# Altium integrated library OPL_Resistor.IntLib: 301 symbols
Pins are listed as number, name and electrical type; pins without a type are passive.

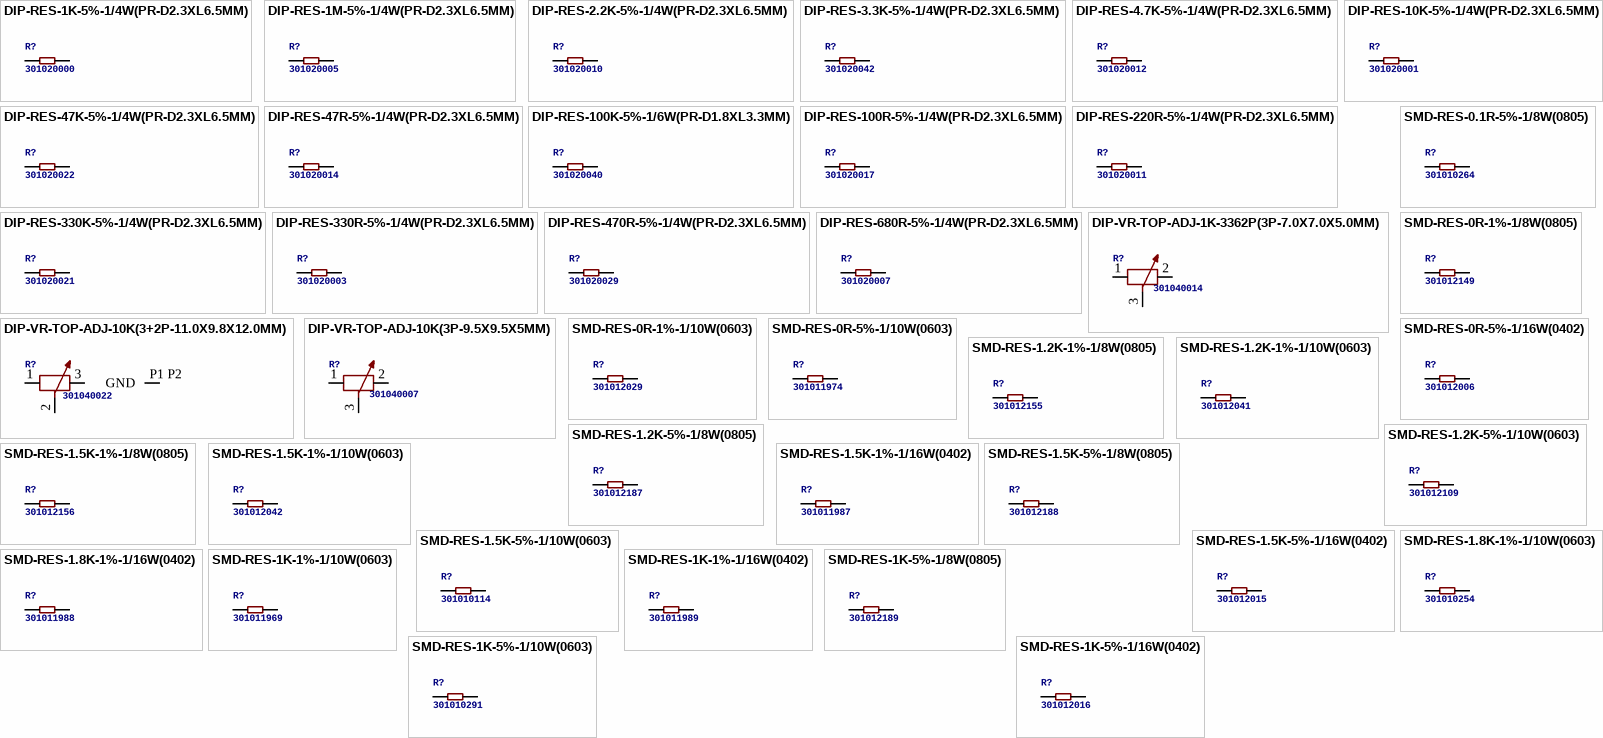
[diagram p0: symbols DIP-RES-1K-5%-1/4W(PR-D2.3XL6.5MM) to SMD-RES-1K-5%-1/16W(0402)]

## DIP-RES-1K-5%-1/4W(PR-D2.3XL6.5MM)
designator R?, comment 301020000
MPN: FHCFR-1/4W-102J
footprint PR-D2.3XL6.5MM
pins: 1, 2

## DIP-RES-1M-5%-1/4W(PR-D2.3XL6.5MM)
designator R?, comment 301020005
MPN: FHCFR-1/4W-105J
footprint PR-D2.3XL6.5MM
pins: 1, 2

## DIP-RES-2.2K-5%-1/4W(PR-D2.3XL6.5MM)
designator R?, comment 301020010
MPN: FHCFR-1/4W-222J
footprint PR-D2.3XL6.5MM
pins: 1, 2

## DIP-RES-3.3K-5%-1/4W(PR-D2.3XL6.5MM)
designator R?, comment 301020042
MPN: FHCFR-1/4W-332J
footprint PR-D2.3XL6.5MM
pins: 1, 2

## DIP-RES-4.7K-5%-1/4W(PR-D2.3XL6.5MM)
designator R?, comment 301020012
MPN: FHCFR-1/4W-472J
footprint PR-D2.3XL6.5MM
pins: 1, 2

## DIP-RES-10K-5%-1/4W(PR-D2.3XL6.5MM)
designator R?, comment 301020001
MPN: FHCFR-1/4W-103J
footprint PR-D2.3XL6.5MM
pins: 1, 2

## DIP-RES-47K-5%-1/4W(PR-D2.3XL6.5MM)
designator R?, comment 301020022
MPN: FHCFR-1/4W-473J
footprint PR-D2.3XL6.5MM
pins: 1, 2

## DIP-RES-47R-5%-1/4W(PR-D2.3XL6.5MM)
designator R?, comment 301020014
MPN: FHCFR-1/4W-470J
footprint PR-D2.3XL6.5MM
pins: 1, 2

## DIP-RES-100K-5%-1/6W(PR-D1.8XL3.3MM)
designator R?, comment 301020040
MPN: FHCFR-1/6W-104J--
footprint PR-D1.8*L3.3MM
pins: 5 2, 6 1

## DIP-RES-100R-5%-1/4W(PR-D2.3XL6.5MM)
designator R?, comment 301020017
MPN: FHCFR-1/4W-101J
footprint PR-D2.3XL6.5MM
pins: 1, 2

## DIP-RES-220R-5%-1/4W(PR-D2.3XL6.5MM)
designator R?, comment 301020011
MPN: FHCFR-1/4W-221J
footprint PR-D2.3XL6.5MM
pins: 1, 2

## DIP-RES-330K-5%-1/4W(PR-D2.3XL6.5MM)
designator R?, comment 301020021
MPN: FHCFR-1/4W-334J
footprint PR-D2.3XL6.5MM
pins: 1, 2

## DIP-RES-330R-5%-1/4W(PR-D2.3XL6.5MM)
designator R?, comment 301020003
MPN: FHCFR-1/4W-331J
footprint PR-D2.3XL6.5MM
pins: 1, 2

## DIP-RES-470R-5%-1/4W(PR-D2.3XL6.5MM)
designator R?, comment 301020029
MPN: FHCFR-1/4W-471J
footprint PR-D2.3XL6.5MM
pins: 1, 2

## DIP-RES-680R-5%-1/4W(PR-D2.3XL6.5MM)
designator R?, comment 301020007
MPN: FHCFR-1/4W-681J
footprint PR-D2.3XL6.5MM
pins: 1, 2

## DIP-VR-TOP-ADJ-1K-3362P(3P-7.0X7.0X5.0MM)
designator R?, comment 301040014
MPN: SX3362P
footprint ADJR3-7.0X7.0X5.0MM
pins: 1, 2, 3

## DIP-VR-TOP-ADJ-10K(3+2P-11.0X9.8X12.0MM)
designator R?, comment 301040022
MPN: WH09-2-103
footprint ADJR2+3P-11.0X9.8X12.0MM
pins: 1, 2, 3, P1 P2 GND (power)

## DIP-VR-TOP-ADJ-10K(3P-9.5X9.5X5MM)
designator R?, comment 301040007
MPN: 3386U-103
footprint ADJR3-9.5X9.5X10.5MM
pins: 1, 2, 3

## SMD-RES-0.1R-5%-1/8W(0805)
designator R?, comment 301010264
MPN: RL0805JR-070R1L
footprint R0805
pins: 1, 2

## SMD-RES-0R-1%-1/8W(0805)
designator R?, comment 301012149
MPN: RC0805JR-071KL
footprint R0805
pins: 1, 2

## SMD-RES-0R-1%-1/10W(0603)
designator R?, comment 301012029
MPN: RC0603FR-071K5L
footprint R0603
pins: 1, 2

## SMD-RES-0R-5%-1/10W(0603)
designator R?, comment 301011974
MPN: RC0603JR-070RL
footprint R0603
pins: 1, 2

## SMD-RES-0R-5%-1/16W(0402)
designator R?, comment 301012006
MPN: RC0402JR-070RL
footprint R0402
pins: 1, 2

## SMD-RES-1.2K-1%-1/8W(0805)
designator R?, comment 301012155
MPN: RC0805JR-071KL
footprint R0805
pins: 1, 2

## SMD-RES-1.2K-1%-1/10W(0603)
designator R?, comment 301012041
MPN: RC0603FR-071K5L
footprint R0603
pins: 1, 2

## SMD-RES-1.2K-5%-1/8W(0805)
designator R?, comment 301012187
MPN: RC0805JR-071KL
footprint R0805
pins: 1, 2

## SMD-RES-1.2K-5%-1/10W(0603)
designator R?, comment 301012109
MPN: RC0603FR-071K5L
footprint R0603
pins: 1, 2

## SMD-RES-1.5K-1%-1/8W(0805)
designator R?, comment 301012156
MPN: RC0805JR-071KL
footprint R0805
pins: 1, 2

## SMD-RES-1.5K-1%-1/10W(0603)
designator R?, comment 301012042
MPN: RC0603FR-071K5L
footprint R0603
pins: 1, 2

## SMD-RES-1.5K-1%-1/16W(0402)
designator R?, comment 301011987
MPN: RC0402JR-070RL
footprint R0402
pins: 1, 2

## SMD-RES-1.5K-5%-1/8W(0805)
designator R?, comment 301012188
MPN: RC0805JR-071KL
footprint R0805
pins: 1, 2

## SMD-RES-1.5K-5%-1/10W(0603)
designator R?, comment 301010114
MPN: RC0603JR-071K5L
footprint R0603
pins: 1, 2

## SMD-RES-1.5K-5%-1/16W(0402)
designator R?, comment 301012015
MPN: RC0402JR-071K5L
footprint R0402
pins: 1, 2

## SMD-RES-1.8K-1%-1/10W(0603)
designator R?, comment 301010254
MPN: RC0603FR-071K8L
footprint R0603
pins: 1, 2

## SMD-RES-1.8K-1%-1/16W(0402)
designator R?, comment 301011988
MPN: RC0402JR-070RL
footprint R0402
pins: 1, 2

## SMD-RES-1K-1%-1/10W(0603)
designator R?, comment 301011969
MPN: RC0603FR-071KL
footprint R0603
pins: 1, 2

## SMD-RES-1K-1%-1/16W(0402)
designator R?, comment 301011989
MPN: RC0402JR-070RL
footprint R0402
pins: 1, 2

## SMD-RES-1K-5%-1/8W(0805)
designator R?, comment 301012189
MPN: RC0805JR-071KL
footprint R0805
pins: 1, 2

## SMD-RES-1K-5%-1/10W(0603)
designator R?, comment 301010291
MPN: RC0603JR-071KL
footprint R0603
pins: 1, 2

## SMD-RES-1K-5%-1/16W(0402)
designator R?, comment 301012016
MPN: RC0402JR-071KL
footprint R0402
pins: 1, 2

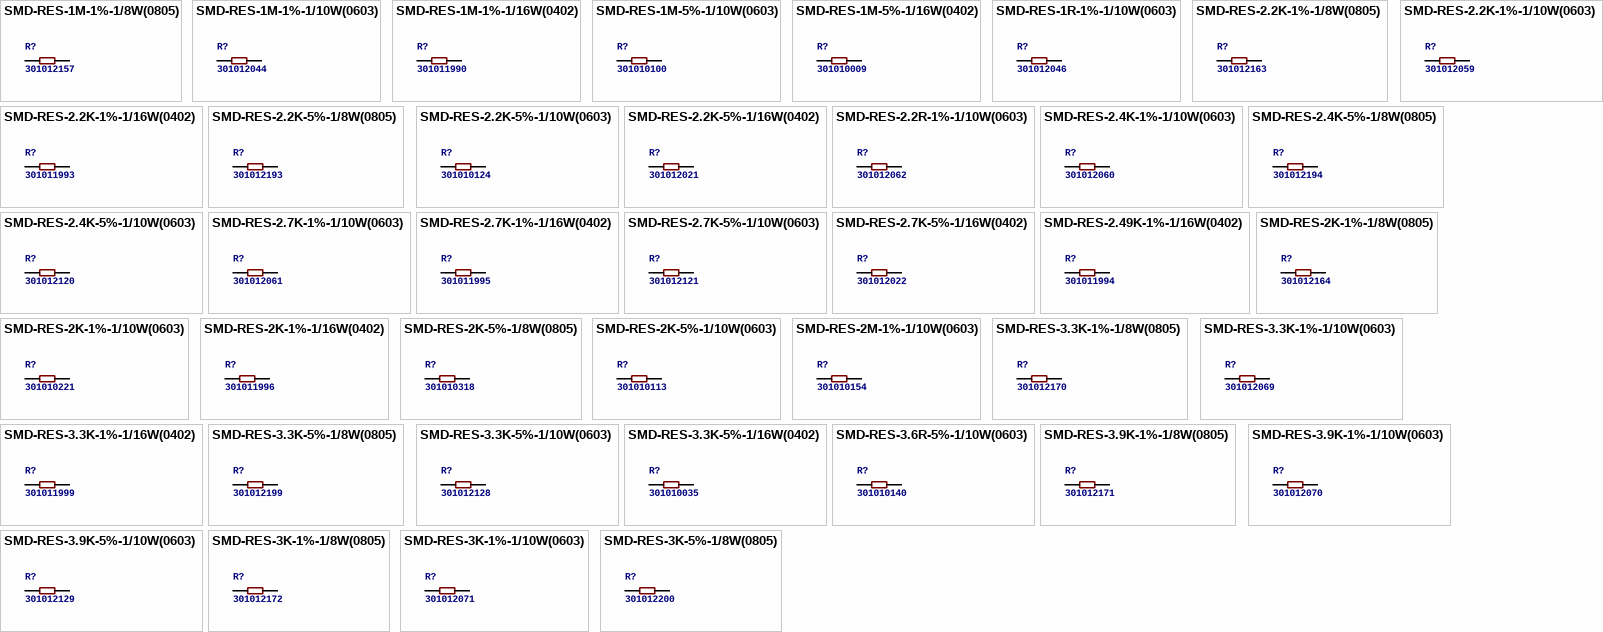
[diagram p1: symbols SMD-RES-1M-1%-1/8W(0805) to SMD-RES-3K-5%-1/8W(0805)]

## SMD-RES-1M-1%-1/8W(0805)
designator R?, comment 301012157
MPN: RC0805JR-071KL
footprint R0805
pins: 1, 2

## SMD-RES-1M-1%-1/10W(0603)
designator R?, comment 301012044
MPN: RC0603FR-071ML
footprint R0603
pins: 1, 2

## SMD-RES-1M-1%-1/16W(0402)
designator R?, comment 301011990
MPN: RC0402FR-071ML
footprint R0402
pins: 1, 2

## SMD-RES-1M-5%-1/10W(0603)
designator R?, comment 301010100
MPN: RC0603JR-071ML
footprint R0603
pins: 1, 2

## SMD-RES-1M-5%-1/16W(0402)
designator R?, comment 301010009
MPN: RC0402JR-071ML
footprint R0402
pins: 1, 2

## SMD-RES-1R-1%-1/10W(0603)
designator R?, comment 301012046
MPN: RC0603FR-071K5L
footprint R0603
pins: 1, 2

## SMD-RES-2.2K-1%-1/8W(0805)
designator R?, comment 301012163
MPN: RC0805JR-071KL
footprint R0805
pins: 1, 2

## SMD-RES-2.2K-1%-1/10W(0603)
designator R?, comment 301012059
MPN: RC0603FR-071K5L
footprint R0603
pins: 1, 2

## SMD-RES-2.2K-1%-1/16W(0402)
designator R?, comment 301011993
MPN: RC0402JR-070RL
footprint R0402
pins: 1, 2

## SMD-RES-2.2K-5%-1/8W(0805)
designator R?, comment 301012193
MPN: RC0805JR-072K2L
footprint R0805
pins: 1, 2

## SMD-RES-2.2K-5%-1/10W(0603)
designator R?, comment 301010124
MPN: RC0603JR-072K2L
footprint R0603
pins: 1, 2

## SMD-RES-2.2K-5%-1/16W(0402)
designator R?, comment 301012021
MPN: RC0402JR-070RL
footprint R0402
pins: 1, 2

## SMD-RES-2.2R-1%-1/10W(0603)
designator R?, comment 301012062
MPN: RC0603FR-071K5L
footprint R0603
pins: 1, 2

## SMD-RES-2.4K-1%-1/10W(0603)
designator R?, comment 301012060
MPN: RC0603FR-071K5L
footprint R0603
pins: 1, 2

## SMD-RES-2.4K-5%-1/8W(0805)
designator R?, comment 301012194
MPN: RC0805JR-071KL
footprint R0805
pins: 1, 2

## SMD-RES-2.4K-5%-1/10W(0603)
designator R?, comment 301012120
MPN: RC0603FR-071K5L
footprint R0603
pins: 1, 2

## SMD-RES-2.7K-1%-1/10W(0603)
designator R?, comment 301012061
footprint R0603
pins: 1, 2

## SMD-RES-2.7K-1%-1/16W(0402)
designator R?, comment 301011995
MPN: RC0402FR-072K7L
footprint R0402
pins: 1, 2

## SMD-RES-2.7K-5%-1/10W(0603)
designator R?, comment 301012121
MPN: RC0603FR-071K5L
footprint R0603
pins: 1, 2

## SMD-RES-2.7K-5%-1/16W(0402)
designator R?, comment 301012022
MPN: RC0402JR-070RL
footprint R0402
pins: 1, 2

## SMD-RES-2.49K-1%-1/16W(0402)
designator R?, comment 301011994
MPN: RC0402JR-070RL
footprint R0402
pins: 1, 2

## SMD-RES-2K-1%-1/8W(0805)
designator R?, comment 301012164
MPN: RC0805JR-071KL
footprint R0805
pins: 1, 2

## SMD-RES-2K-1%-1/10W(0603)
designator R?, comment 301010221
MPN: RC0603FR-072KL
footprint R0603
pins: 1, 2

## SMD-RES-2K-1%-1/16W(0402)
designator R?, comment 301011996
MPN: RC0402JR-070RL
footprint R0402
pins: 1, 2

## SMD-RES-2K-5%-1/8W(0805)
designator R?, comment 301010318
MPN: RC0805JR-072KL
footprint R0805
pins: 1, 2

## SMD-RES-2K-5%-1/10W(0603)
designator R?, comment 301010113
MPN: RC0603JR-072KL
footprint R0603
pins: 1, 2

## SMD-RES-2M-1%-1/10W(0603)
designator R?, comment 301010154
MPN: RC0603FR-072ML
footprint R0603
pins: 1, 2

## SMD-RES-3.3K-1%-1/8W(0805)
designator R?, comment 301012170
MPN: RC0805JR-071KL
footprint R0805
pins: 1, 2

## SMD-RES-3.3K-1%-1/10W(0603)
designator R?, comment 301012069
MPN: RC0603FR-073K3L
footprint R0603
pins: 1, 2

## SMD-RES-3.3K-1%-1/16W(0402)
designator R?, comment 301011999
MPN: RC0402JR-070RL
footprint R0402
pins: 1, 2

## SMD-RES-3.3K-5%-1/8W(0805)
designator R?, comment 301012199
MPN: RC0805JR-071KL
footprint R0805
pins: 1, 2

## SMD-RES-3.3K-5%-1/10W(0603)
designator R?, comment 301012128
footprint R0603
pins: 1, 2

## SMD-RES-3.3K-5%-1/16W(0402)
designator R?, comment 301010035
MPN: RC0402JR-073K3L
footprint R0402
pins: 1, 2

## SMD-RES-3.6R-5%-1/10W(0603)
designator R?, comment 301010140
MPN: RC0603JR-073R6L
footprint R0603
pins: 1, 2

## SMD-RES-3.9K-1%-1/8W(0805)
designator R?, comment 301012171
MPN: RC0805JR-071KL
footprint R0805
pins: 1, 2

## SMD-RES-3.9K-1%-1/10W(0603)
designator R?, comment 301012070
MPN: RC0603FR-071K5L
footprint R0603
pins: 1, 2

## SMD-RES-3.9K-5%-1/10W(0603)
designator R?, comment 301012129
MPN: RC0603JR-073K9L
footprint R0603
pins: 1, 2

## SMD-RES-3K-1%-1/8W(0805)
designator R?, comment 301012172
MPN: RC0805JR-071KL
footprint R0805
pins: 1, 2

## SMD-RES-3K-1%-1/10W(0603)
designator R?, comment 301012071
MPN: RC0603FR-073KL
footprint R0603
pins: 1, 2

## SMD-RES-3K-5%-1/8W(0805)
designator R?, comment 301012200
MPN: RC0805JR-071KL
footprint R0805
pins: 1, 2

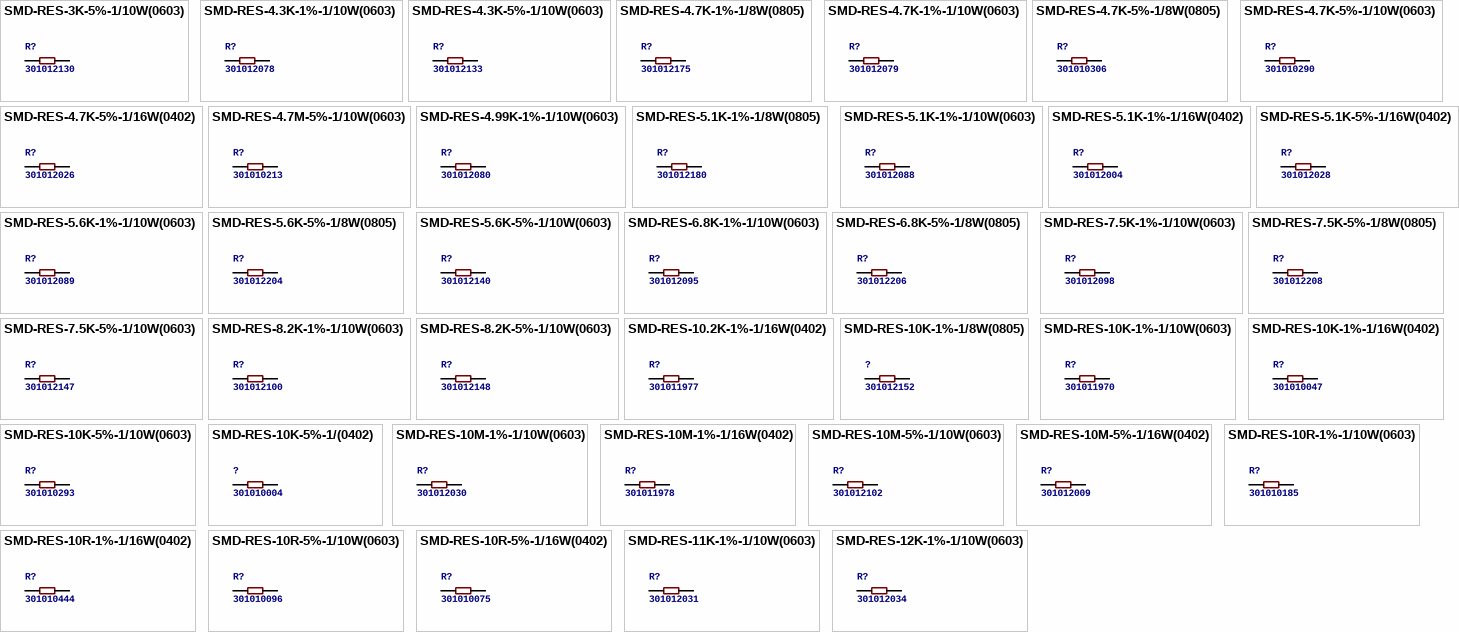
[diagram p2: symbols SMD-RES-3K-5%-1/10W(0603) to SMD-RES-12K-1%-1/10W(0603)]

## SMD-RES-3K-5%-1/10W(0603)
designator R?, comment 301012130
MPN: RC0603FR-071K5L
footprint R0603
pins: 1, 2

## SMD-RES-4.3K-1%-1/10W(0603)
designator R?, comment 301012078
MPN: RC0603FR-071K5L
footprint R0603
pins: 1, 2

## SMD-RES-4.3K-5%-1/10W(0603)
designator R?, comment 301012133
MPN: RC0603FR-071K5L
footprint R0603
pins: 1, 2

## SMD-RES-4.7K-1%-1/8W(0805)
designator R?, comment 301012175
MPN: RC0805JR-071KL
footprint R0805
pins: 1, 2

## SMD-RES-4.7K-1%-1/10W(0603)
designator R?, comment 301012079
MPN: RC0603FR-071K5L
footprint R0603
pins: 1, 2

## SMD-RES-4.7K-5%-1/8W(0805)
designator R?, comment 301010306
MPN: RC0805JR-074K7L
footprint R0805
pins: 1, 2

## SMD-RES-4.7K-5%-1/10W(0603)
designator R?, comment 301010290
MPN: RC0603JR-074K7L
footprint R0603
pins: 1, 2

## SMD-RES-4.7K-5%-1/16W(0402)
designator R?, comment 301012026
MPN: RC0402JR-074K7L
footprint R0402
pins: 1, 2

## SMD-RES-4.7M-5%-1/10W(0603)
designator R?, comment 301010213
MPN: RC0603JR-074M7L
footprint R0603
pins: 1, 2

## SMD-RES-4.99K-1%-1/10W(0603)
designator R?, comment 301012080
MPN: RC0603FR-071K5L
footprint R0603
pins: 1, 2

## SMD-RES-5.1K-1%-1/8W(0805)
designator R?, comment 301012180
MPN: RC0805JR-071KL
footprint R0805
pins: 1, 2

## SMD-RES-5.1K-1%-1/10W(0603)
designator R?, comment 301012088
MPN: RC0603FR-071K5L
footprint R0603
pins: 1, 2

## SMD-RES-5.1K-1%-1/16W(0402)
designator R?, comment 301012004
MPN: RC0402JR-070RL
footprint R0402
pins: 1, 2

## SMD-RES-5.1K-5%-1/16W(0402)
designator R?, comment 301012028
MPN: RC0402JR-070RL
footprint R0402
pins: 1, 2

## SMD-RES-5.6K-1%-1/10W(0603)
designator R?, comment 301012089
MPN: RC0603FR-071K5L
footprint R0603
pins: 1, 2

## SMD-RES-5.6K-5%-1/8W(0805)
designator R?, comment 301012204
MPN: RC0805JR-071KL
footprint R0805
pins: 1, 2

## SMD-RES-5.6K-5%-1/10W(0603)
designator R?, comment 301012140
MPN: RC0603FR-071K5L
footprint R0603
pins: 1, 2

## SMD-RES-6.8K-1%-1/10W(0603)
designator R?, comment 301012095
MPN: RC0805JR-07220KL
footprint R0603
pins: 1, 2

## SMD-RES-6.8K-5%-1/8W(0805)
designator R?, comment 301012206
MPN: RC0805JR-071KL
footprint R0805
pins: 1, 2

## SMD-RES-7.5K-1%-1/10W(0603)
designator R?, comment 301012098
MPN: RC0603FR-071K5L
footprint R0603
pins: 1, 2

## SMD-RES-7.5K-5%-1/8W(0805)
designator R?, comment 301012208
MPN: RC0805JR-071KL
footprint R0805
pins: 1, 2

## SMD-RES-7.5K-5%-1/10W(0603)
designator R?, comment 301012147
MPN: RC0603FR-071K5L
footprint R0603
pins: 1, 2

## SMD-RES-8.2K-1%-1/10W(0603)
designator R?, comment 301012100
MPN: RC0603FR-071K5L
footprint R0603
pins: 1, 2

## SMD-RES-8.2K-5%-1/10W(0603)
designator R?, comment 301012148
MPN: RC0603FR-071K5L
footprint R0603
pins: 1, 2

## SMD-RES-10.2K-1%-1/16W(0402)
designator R?, comment 301011977
MPN: RC0402JR-070RL
footprint R0402
pins: 1, 2

## SMD-RES-10K-1%-1/8W(0805)
designator ?, comment 301012152
MPN: RC0805FR-0710KL
footprint R0805
pins: 1, 2

## SMD-RES-10K-1%-1/10W(0603)
designator R?, comment 301011970
MPN: RC0603FR-0710KL
footprint R0603
pins: 1, 2

## SMD-RES-10K-1%-1/16W(0402)
designator R?, comment 301010047
MPN: RC0402FR-0710KL
footprint R0402
pins: 1, 2

## SMD-RES-10K-5%-1/10W(0603)
designator R?, comment 301010293
MPN: RC0603JR-0710KL
footprint R0603
pins: 1, 2

## SMD-RES-10K-5%-1/(0402)
designator ?, comment 301010004
MPN: RC0402JR-0710KL
footprint R0402
pins: 1, 2

## SMD-RES-10M-1%-1/10W(0603)
designator R?, comment 301012030
MPN: RC0603FR-0710ML
footprint R0603
pins: 1, 2

## SMD-RES-10M-1%-1/16W(0402)
designator R?, comment 301011978
MPN: RC0402FR-0710ML
footprint R0402
pins: 1, 2

## SMD-RES-10M-5%-1/10W(0603)
designator R?, comment 301012102
MPN: RC0603FR-071K5L
footprint R0603
pins: 1, 2

## SMD-RES-10M-5%-1/16W(0402)
designator R?, comment 301012009
MPN: RC0402JR-070RL
footprint R0402
pins: 1, 2

## SMD-RES-10R-1%-1/10W(0603)
designator R?, comment 301010185
MPN: RC0603FR-0710RL
footprint R0603
pins: 1, 2

## SMD-RES-10R-1%-1/16W(0402)
designator R?, comment 301010444
MPN: RC0402FR-0710RL
footprint R0402
pins: 1, 2

## SMD-RES-10R-5%-1/10W(0603)
designator R?, comment 301010096
MPN: RC0603JR-0710RL
footprint R0603
pins: 1, 2

## SMD-RES-10R-5%-1/16W(0402)
designator R?, comment 301010075
MPN: RC0402JR-0710RL
footprint R0402
pins: 1, 2

## SMD-RES-11K-1%-1/10W(0603)
designator R?, comment 301012031
MPN: RC0603FR-071K5L
footprint R0603
pins: 1, 2

## SMD-RES-12K-1%-1/10W(0603)
designator R?, comment 301012034
MPN: RC0603FR-0712KL
footprint R0603
pins: 1, 2

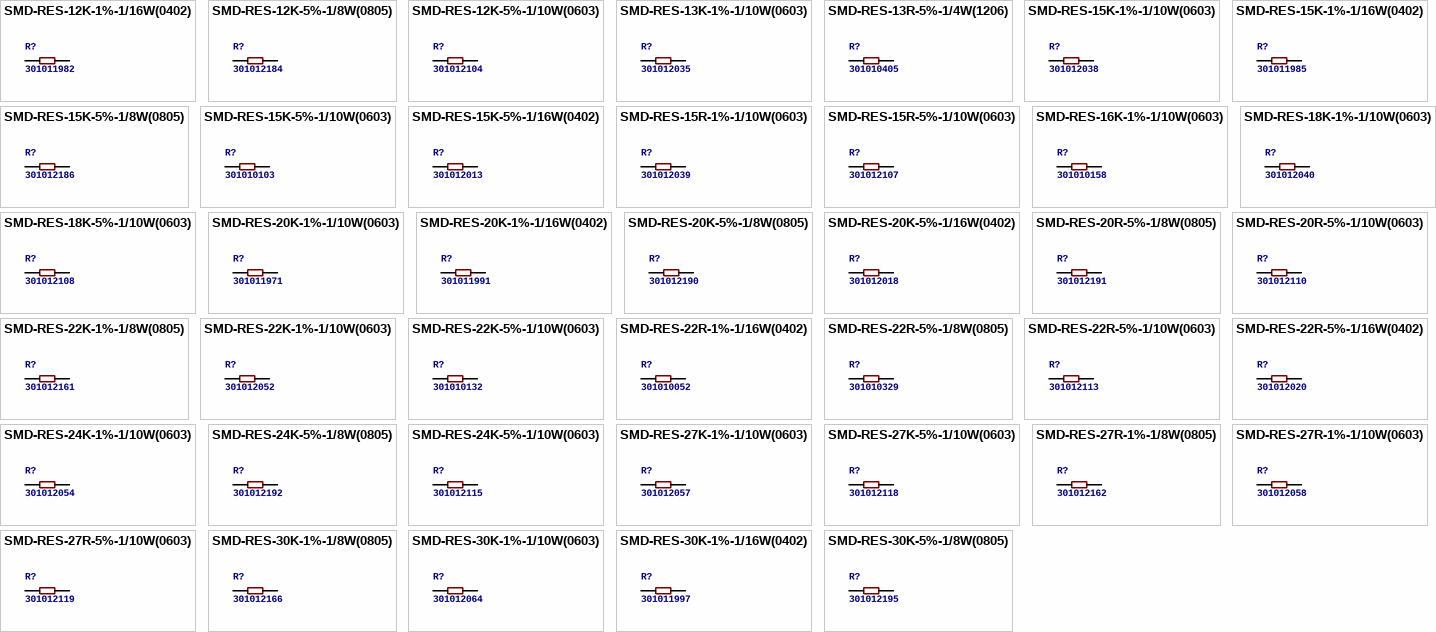
[diagram p3: symbols SMD-RES-12K-1%-1/16W(0402) to SMD-RES-30K-5%-1/8W(0805)]

## SMD-RES-12K-1%-1/16W(0402)
designator R?, comment 301011982
MPN: RC0402JR-070RL
footprint R0402
pins: 1, 2

## SMD-RES-12K-5%-1/8W(0805)
designator R?, comment 301012184
MPN: RC0805JR-071KL
footprint R0805
pins: 1, 2

## SMD-RES-12K-5%-1/10W(0603)
designator R?, comment 301012104
MPN: RC0603FR-071K5L
footprint R0603
pins: 1, 2

## SMD-RES-13K-1%-1/10W(0603)
designator R?, comment 301012035
MPN: RC0603FR-071K5L
footprint R0603
pins: 1, 2

## SMD-RES-13R-5%-1/4W(1206)
designator R?, comment 301010405
MPN: RC1206JR-0713RL
footprint R1206
pins: 1, 2

## SMD-RES-15K-1%-1/10W(0603)
designator R?, comment 301012038
MPN: RC0603FR-0715KL
footprint R0603
pins: 1, 2

## SMD-RES-15K-1%-1/16W(0402)
designator R?, comment 301011985
MPN: RC0402JR-070RL
footprint R0402
pins: 1, 2

## SMD-RES-15K-5%-1/8W(0805)
designator R?, comment 301012186
MPN: RC0805JR-071KL
footprint R0805
pins: 1, 2

## SMD-RES-15K-5%-1/10W(0603)
designator R?, comment 301010103
MPN: RC0603JR-0715KL
footprint R0603
pins: 1, 2

## SMD-RES-15K-5%-1/16W(0402)
designator R?, comment 301012013
MPN: RC0402JR-070RL
footprint R0402
pins: 1, 2

## SMD-RES-15R-1%-1/10W(0603)
designator R?, comment 301012039
MPN: RC0603FR-071K5L
footprint R0603
pins: 1, 2

## SMD-RES-15R-5%-1/10W(0603)
designator R?, comment 301012107
MPN: RC0603FR-071K5L
footprint R0603
pins: 1, 2

## SMD-RES-16K-1%-1/10W(0603)
designator R?, comment 301010158
MPN: RC0603FR-0716KL
footprint R0603
pins: 1, 2

## SMD-RES-18K-1%-1/10W(0603)
designator R?, comment 301012040
MPN: RC0603FR-071K5L
footprint R0603
pins: 1, 2

## SMD-RES-18K-5%-1/10W(0603)
designator R?, comment 301012108
MPN: RC0603JR-0718KL
footprint R0603
pins: 1, 2

## SMD-RES-20K-1%-1/10W(0603)
designator R?, comment 301011971
MPN: RC0603FR-0720KL
footprint R0603
pins: 1, 2

## SMD-RES-20K-1%-1/16W(0402)
designator R?, comment 301011991
MPN: RC0402JR-070RL
footprint R0402
pins: 1, 2

## SMD-RES-20K-5%-1/8W(0805)
designator R?, comment 301012190
MPN: RC0805JR-071KL
footprint R0805
pins: 1, 2

## SMD-RES-20K-5%-1/16W(0402)
designator R?, comment 301012018
MPN: RC0402JR-070RL
footprint R0402
pins: 1, 2

## SMD-RES-20R-5%-1/8W(0805)
designator R?, comment 301012191
MPN: RC0805JR-071KL
footprint R0805
pins: 1, 2

## SMD-RES-20R-5%-1/10W(0603)
designator R?, comment 301012110
MPN: RC0603FR-071K5L
footprint R0603
pins: 1, 2

## SMD-RES-22K-1%-1/8W(0805)
designator R?, comment 301012161
MPN: RC0805JR-071KL
footprint R0805
pins: 1, 2

## SMD-RES-22K-1%-1/10W(0603)
designator R?, comment 301012052
MPN: RC0603FR-071K5L
footprint R0603
pins: 1, 2

## SMD-RES-22K-5%-1/10W(0603)
designator R?, comment 301010132
MPN: RC0603JR-0722KL
footprint R0603
pins: 1, 2

## SMD-RES-22R-1%-1/16W(0402)
designator R?, comment 301010052
MPN: RC0402FR-0722RL
footprint R0402
pins: 1, 2

## SMD-RES-22R-5%-1/8W(0805)
designator R?, comment 301010329
MPN: RC0805JR-0722RL
footprint R0805
pins: 1, 2

## SMD-RES-22R-5%-1/10W(0603)
designator R?, comment 301012113
MPN: RC0603JR-0722RL
footprint R0603
pins: 1, 2

## SMD-RES-22R-5%-1/16W(0402)
designator R?, comment 301012020
MPN: RC0402JR-070RL
footprint R0402
pins: 1, 2

## SMD-RES-24K-1%-1/10W(0603)
designator R?, comment 301012054
footprint R0603
pins: 1, 2

## SMD-RES-24K-5%-1/8W(0805)
designator R?, comment 301012192
MPN: RC0805JR-071KL
footprint R0805
pins: 1, 2

## SMD-RES-24K-5%-1/10W(0603)
designator R?, comment 301012115
MPN: RC0603FR-071K5L
footprint R0603
pins: 1, 2

## SMD-RES-27K-1%-1/10W(0603)
designator R?, comment 301012057
MPN: RC0603FR-071K5L
footprint R0603
pins: 1, 2

## SMD-RES-27K-5%-1/10W(0603)
designator R?, comment 301012118
MPN: RC0603FR-071K5L
footprint R0603
pins: 1, 2

## SMD-RES-27R-1%-1/8W(0805)
designator R?, comment 301012162
MPN: RC0805JR-071KL
footprint R0805
pins: 1, 2

## SMD-RES-27R-1%-1/10W(0603)
designator R?, comment 301012058
MPN: RC0603FR-071K5L
footprint R0603
pins: 1, 2

## SMD-RES-27R-5%-1/10W(0603)
designator R?, comment 301012119
MPN: RC0603FR-071K5L
footprint R0603
pins: 1, 2

## SMD-RES-30K-1%-1/8W(0805)
designator R?, comment 301012166
MPN: RC0805JR-071KL
footprint R0805
pins: 1, 2

## SMD-RES-30K-1%-1/10W(0603)
designator R?, comment 301012064
MPN: RC0603FR-0730KL
footprint R0603
pins: 1, 2

## SMD-RES-30K-1%-1/16W(0402)
designator R?, comment 301011997
MPN: RC0402JR-070RL
footprint R0402
pins: 1, 2

## SMD-RES-30K-5%-1/8W(0805)
designator R?, comment 301012195
MPN: RC0805JR-071KL
footprint R0805
pins: 1, 2

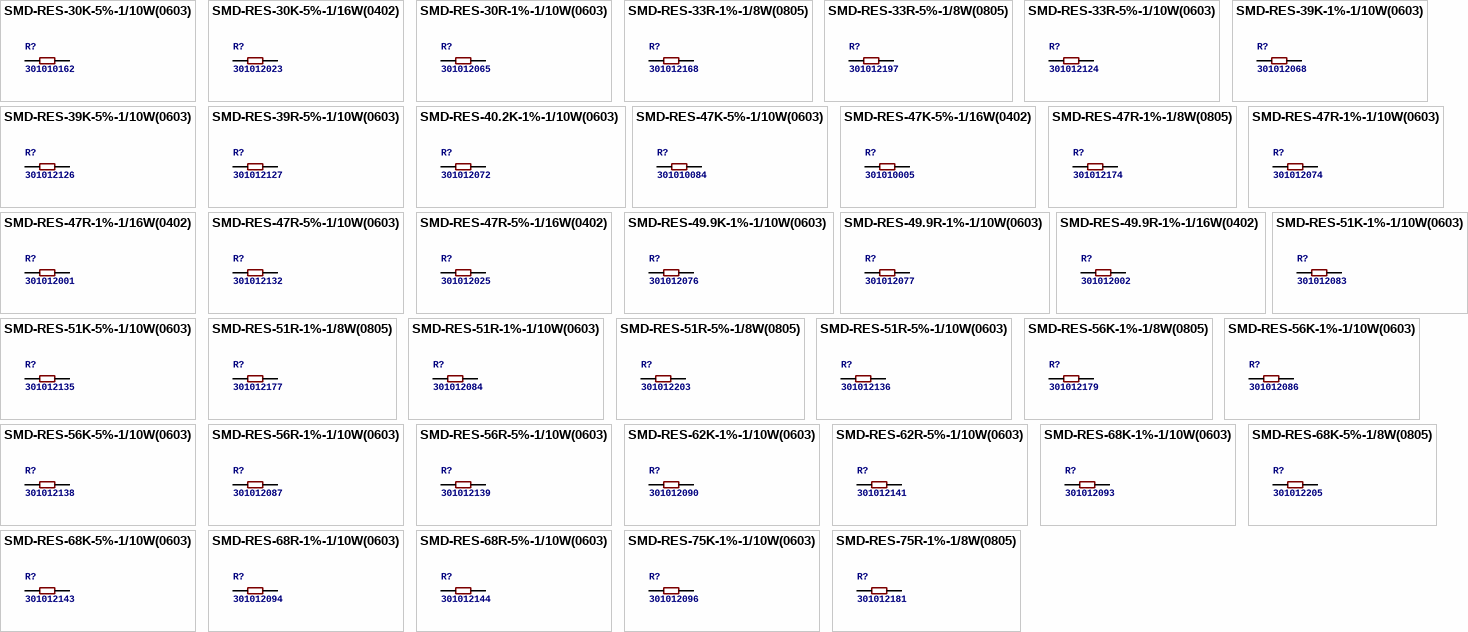
[diagram p4: symbols SMD-RES-30K-5%-1/10W(0603) to SMD-RES-75R-1%-1/8W(0805)]

## SMD-RES-30K-5%-1/10W(0603)
designator R?, comment 301010162
footprint R0603
pins: 1, 2

## SMD-RES-30K-5%-1/16W(0402)
designator R?, comment 301012023
MPN: RC0402JR-070RL
footprint R0402
pins: 1, 2

## SMD-RES-30R-1%-1/10W(0603)
designator R?, comment 301012065
MPN: RC0603FR-071K5L
footprint R0603
pins: 1, 2

## SMD-RES-33R-1%-1/8W(0805)
designator R?, comment 301012168
MPN: RC0805JR-071KL
footprint R0805
pins: 1, 2

## SMD-RES-33R-5%-1/8W(0805)
designator R?, comment 301012197
MPN: RC0805JR-071KL
footprint R0805
pins: 1, 2

## SMD-RES-33R-5%-1/10W(0603)
designator R?, comment 301012124
MPN: RC0603FR-071K5L
footprint R0603
pins: 1, 2

## SMD-RES-39K-1%-1/10W(0603)
designator R?, comment 301012068
MPN: RC0603FR-071K5L
footprint R0603
pins: 1, 2

## SMD-RES-39K-5%-1/10W(0603)
designator R?, comment 301012126
MPN: RC0603FR-071K5L
footprint R0603
pins: 1, 2

## SMD-RES-39R-5%-1/10W(0603)
designator R?, comment 301012127
MPN: RC0603JR-0739RL
footprint R0603
pins: 1, 2

## SMD-RES-40.2K-1%-1/10W(0603)
designator R?, comment 301012072
MPN: RC0603FR-071K5L
footprint R0603
pins: 1, 2

## SMD-RES-47K-5%-1/10W(0603)
designator R?, comment 301010084
MPN: RC0603JR-0747KL
footprint R0603
pins: 1, 2

## SMD-RES-47K-5%-1/16W(0402)
designator R?, comment 301010005
MPN: RC0402JR-0747KL
footprint R0402
pins: 1, 2

## SMD-RES-47R-1%-1/8W(0805)
designator R?, comment 301012174
MPN: RC0805JR-071KL
footprint R0805
pins: 1, 2

## SMD-RES-47R-1%-1/10W(0603)
designator R?, comment 301012074
MPN: RC0603FR-071K5L
footprint R0603
pins: 1, 2

## SMD-RES-47R-1%-1/16W(0402)
designator R?, comment 301012001
MPN: RC0402JR-070RL
footprint R0402
pins: 1, 2

## SMD-RES-47R-5%-1/10W(0603)
designator R?, comment 301012132
MPN: RC0603FR-071K5L
footprint R0603
pins: 1, 2

## SMD-RES-47R-5%-1/16W(0402)
designator R?, comment 301012025
MPN: RC0402JR-070RL
footprint R0402
pins: 1, 2

## SMD-RES-49.9K-1%-1/10W(0603)
designator R?, comment 301012076
MPN: RC0603FR-071K5L
footprint R0603
pins: 1, 2

## SMD-RES-49.9R-1%-1/10W(0603)
designator R?, comment 301012077
MPN: RC0603FR-0749R9L
footprint R0603
pins: 1, 2

## SMD-RES-49.9R-1%-1/16W(0402)
designator R?, comment 301012002
MPN: RC0402FR-0749R9L
footprint R0402
pins: 1, 2

## SMD-RES-51K-1%-1/10W(0603)
designator R?, comment 301012083
MPN: RC0603FR-071K5L
footprint R0603
pins: 1, 2

## SMD-RES-51K-5%-1/10W(0603)
designator R?, comment 301012135
MPN: RC0603JR-0751KL
footprint R0603
pins: 1, 2

## SMD-RES-51R-1%-1/8W(0805)
designator R?, comment 301012177
MPN: RC0805JR-071KL
footprint R0805
pins: 1, 2

## SMD-RES-51R-1%-1/10W(0603)
designator R?, comment 301012084
MPN: RC0603FR-071K5L
footprint R0603
pins: 1, 2

## SMD-RES-51R-5%-1/8W(0805)
designator R?, comment 301012203
MPN: RC0805JR-071KL
footprint R0805
pins: 1, 2

## SMD-RES-51R-5%-1/10W(0603)
designator R?, comment 301012136
MPN: RC0603FR-071K5L
footprint R0603
pins: 1, 2

## SMD-RES-56K-1%-1/8W(0805)
designator R?, comment 301012179
MPN: RC0805JR-071KL
footprint R0805
pins: 1, 2

## SMD-RES-56K-1%-1/10W(0603)
designator R?, comment 301012086
MPN: RC0603FR-071K5L
footprint R0603
pins: 1, 2

## SMD-RES-56K-5%-1/10W(0603)
designator R?, comment 301012138
MPN: RC0603FR-071K5L
footprint R0603
pins: 1, 2

## SMD-RES-56R-1%-1/10W(0603)
designator R?, comment 301012087
MPN: RC0603FR-071K5L
footprint R0603
pins: 1, 2

## SMD-RES-56R-5%-1/10W(0603)
designator R?, comment 301012139
MPN: RC0603FR-071K5L
footprint R0603
pins: 1, 2

## SMD-RES-62K-1%-1/10W(0603)
designator R?, comment 301012090
MPN: RC0603FR-071K5L
footprint R0603
pins: 1, 2

## SMD-RES-62R-5%-1/10W(0603)
designator R?, comment 301012141
MPN: RC0603FR-071K5L
footprint R0603
pins: 1, 2

## SMD-RES-68K-1%-1/10W(0603)
designator R?, comment 301012093
MPN: RC0603FR-0768KL
footprint R0603
pins: 1, 2

## SMD-RES-68K-5%-1/8W(0805)
designator R?, comment 301012205
MPN: RC0805JR-071KL
footprint R0805
pins: 1, 2

## SMD-RES-68K-5%-1/10W(0603)
designator R?, comment 301012143
MPN: RC0603FR-071K5L
footprint R0603
pins: 1, 2

## SMD-RES-68R-1%-1/10W(0603)
designator R?, comment 301012094
MPN: RC0603FR-071K5L
footprint R0603
pins: 1, 2

## SMD-RES-68R-5%-1/10W(0603)
designator R?, comment 301012144
MPN: RC0603FR-071K5L
footprint R0603
pins: 1, 2

## SMD-RES-75K-1%-1/10W(0603)
designator R?, comment 301012096
MPN: RC0603FR-071K5L
footprint R0603
pins: 1, 2

## SMD-RES-75R-1%-1/8W(0805)
designator R?, comment 301012181
MPN: RC0805JR-071KL
footprint R0805
pins: 1, 2

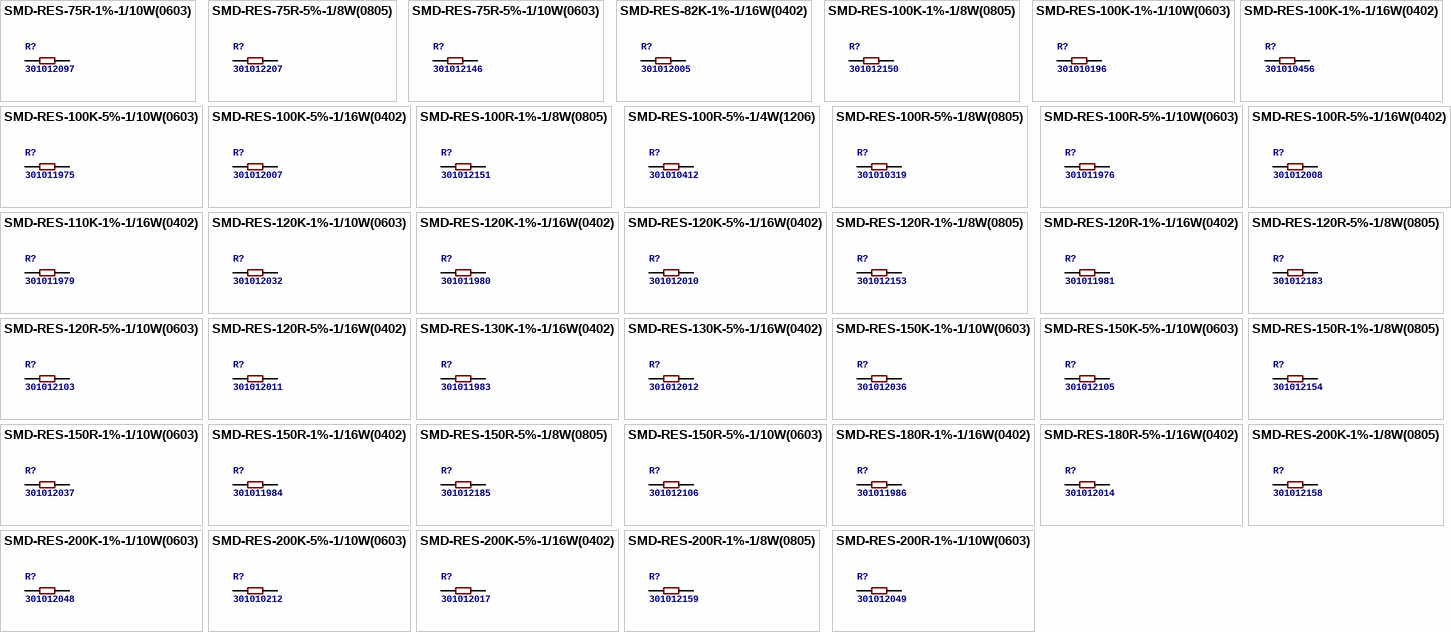
[diagram p5: symbols SMD-RES-75R-1%-1/10W(0603) to SMD-RES-200R-1%-1/10W(0603)]

## SMD-RES-75R-1%-1/10W(0603)
designator R?, comment 301012097
MPN: RC0603FR-071K5L
footprint R0603
pins: 1, 2

## SMD-RES-75R-5%-1/8W(0805)
designator R?, comment 301012207
MPN: RC0805JR-071KL
footprint R0805
pins: 1, 2

## SMD-RES-75R-5%-1/10W(0603)
designator R?, comment 301012146
MPN: RC0603FR-071K5L
footprint R0603
pins: 1, 2

## SMD-RES-82K-1%-1/16W(0402)
designator R?, comment 301012005
MPN: RC0402JR-070RL
footprint R0402
pins: 1, 2

## SMD-RES-100K-1%-1/8W(0805)
designator R?, comment 301012150
MPN: RC0805JR-071KL
footprint R0805
pins: 1, 2

## SMD-RES-100K-1%-1/10W(0603)
designator R?, comment 301010196
MPN: RC0603FR-07100KL
footprint R0603
pins: 1, 2

## SMD-RES-100K-1%-1/16W(0402)
designator R?, comment 301010456
MPN: RC0402FR-07100KL
footprint R0402
pins: 1, 2

## SMD-RES-100K-5%-1/10W(0603)
designator R?, comment 301011975
MPN: RC0603JR-07100KL
footprint R0603
pins: 1, 2

## SMD-RES-100K-5%-1/16W(0402)
designator R?, comment 301012007
MPN: RC0402JR-07100KL
footprint R0402
pins: 1, 2

## SMD-RES-100R-1%-1/8W(0805)
designator R?, comment 301012151
MPN: RC0805JR-071KL
footprint R0805
pins: 1, 2

## SMD-RES-100R-5%-1/4W(1206)
designator R?, comment 301010412
MPN: RC1206JR-07100RL
footprint R1206
pins: 1, 2

## SMD-RES-100R-5%-1/8W(0805)
designator R?, comment 301010319
MPN: RC0805JR-07100RL
footprint R0805
pins: 1, 2

## SMD-RES-100R-5%-1/10W(0603)
designator R?, comment 301011976
MPN: RC0603JR-07100RL
footprint R0603
pins: 1, 2

## SMD-RES-100R-5%-1/16W(0402)
designator R?, comment 301012008
MPN: RC0402JR-07100RL
footprint R0402
pins: 1, 2

## SMD-RES-110K-1%-1/16W(0402)
designator R?, comment 301011979
MPN: RC0402JR-070RL
footprint R0402
pins: 1, 2

## SMD-RES-120K-1%-1/10W(0603)
designator R?, comment 301012032
MPN: RC0603FR-071K5L
footprint R0603
pins: 1, 2

## SMD-RES-120K-1%-1/16W(0402)
designator R?, comment 301011980
MPN: RC0402JR-070RL
footprint R0402
pins: 1, 2

## SMD-RES-120K-5%-1/16W(0402)
designator R?, comment 301012010
MPN: RC0402JR-070RL
footprint R0402
pins: 1, 2

## SMD-RES-120R-1%-1/8W(0805)
designator R?, comment 301012153
MPN: RC0805JR-071KL
footprint R0805
pins: 1, 2

## SMD-RES-120R-1%-1/16W(0402)
designator R?, comment 301011981
MPN: RC0402JR-070RL
footprint R0402
pins: 1, 2

## SMD-RES-120R-5%-1/8W(0805)
designator R?, comment 301012183
MPN: RC0805JR-071KL
footprint R0805
pins: 1, 2

## SMD-RES-120R-5%-1/10W(0603)
designator R?, comment 301012103
MPN: RC0603FR-071K5L
footprint R0603
pins: 1, 2

## SMD-RES-120R-5%-1/16W(0402)
designator R?, comment 301012011
MPN: RC0402JR-070RL
footprint R0402
pins: 1, 2

## SMD-RES-130K-1%-1/16W(0402)
designator R?, comment 301011983
MPN: RC0402JR-070RL
footprint R0402
pins: 1, 2

## SMD-RES-130K-5%-1/16W(0402)
designator R?, comment 301012012
MPN: RC0402JR-070RL
footprint R0402
pins: 1, 2

## SMD-RES-150K-1%-1/10W(0603)
designator R?, comment 301012036
MPN: RC0603FR-07150KL
footprint R0603
pins: 1, 2

## SMD-RES-150K-5%-1/10W(0603)
designator R?, comment 301012105
MPN: RC0603JR-07150KL
footprint R0603
pins: 1, 2

## SMD-RES-150R-1%-1/8W(0805)
designator R?, comment 301012154
MPN: RC0805JR-071KL
footprint R0805
pins: 1, 2

## SMD-RES-150R-1%-1/10W(0603)
designator R?, comment 301012037
MPN: RC0603FR-071K5L
footprint R0603
pins: 1, 2

## SMD-RES-150R-1%-1/16W(0402)
designator R?, comment 301011984
MPN: RC0402JR-070RL
footprint R0402
pins: 1, 2

## SMD-RES-150R-5%-1/8W(0805)
designator R?, comment 301012185
MPN: RC0805JR-071KL
footprint R0805
pins: 1, 2

## SMD-RES-150R-5%-1/10W(0603)
designator R?, comment 301012106
MPN: RC0603FR-071K5L
footprint R0603
pins: 1, 2

## SMD-RES-180R-1%-1/16W(0402)
designator R?, comment 301011986
MPN: RC0402JR-070RL
footprint R0402
pins: 1, 2

## SMD-RES-180R-5%-1/16W(0402)
designator R?, comment 301012014
MPN: RC0402JR-070RL
footprint R0402
pins: 1, 2

## SMD-RES-200K-1%-1/8W(0805)
designator R?, comment 301012158
MPN: RC0805JR-071KL
footprint R0805
pins: 1, 2

## SMD-RES-200K-1%-1/10W(0603)
designator R?, comment 301012048
MPN: RC0603FR-071K5L
footprint R0603
pins: 1, 2

## SMD-RES-200K-5%-1/10W(0603)
designator R?, comment 301010212
MPN: RC0603JR-07200KL
footprint R0603
pins: 1, 2

## SMD-RES-200K-5%-1/16W(0402)
designator R?, comment 301012017
MPN: RC0402JR-070RL
footprint R0402
pins: 1, 2

## SMD-RES-200R-1%-1/8W(0805)
designator R?, comment 301012159
MPN: RC0805JR-071KL
footprint R0805
pins: 1, 2

## SMD-RES-200R-1%-1/10W(0603)
designator R?, comment 301012049
MPN: RC0603FR-071K5L
footprint R0603
pins: 1, 2

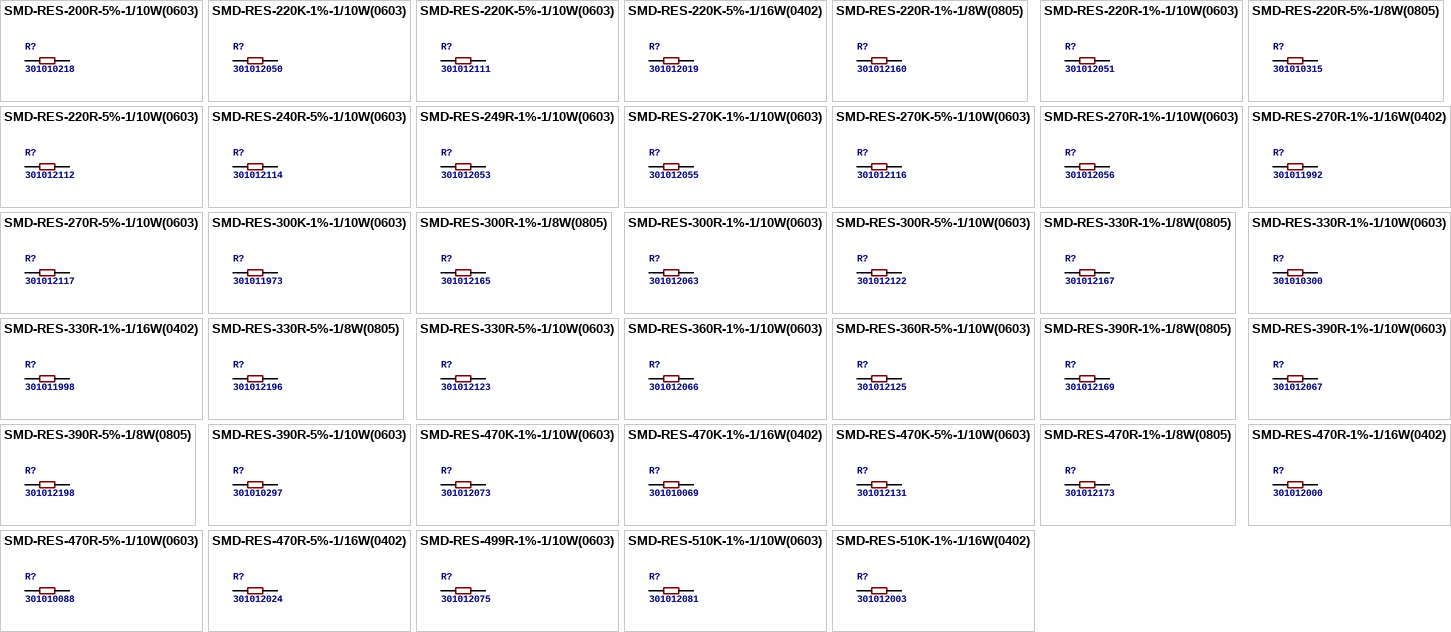
[diagram p6: symbols SMD-RES-200R-5%-1/10W(0603) to SMD-RES-510K-1%-1/16W(0402)]

## SMD-RES-200R-5%-1/10W(0603)
designator R?, comment 301010218
MPN: RC0603JR-07200RL
footprint R0603
pins: 1, 2

## SMD-RES-220K-1%-1/10W(0603)
designator R?, comment 301012050
MPN: RC0603FR-071K5L
footprint R0603
pins: 1, 2

## SMD-RES-220K-5%-1/10W(0603)
designator R?, comment 301012111
MPN: RC0603FR-071K5L
footprint R0603
pins: 1, 2

## SMD-RES-220K-5%-1/16W(0402)
designator R?, comment 301012019
MPN: RC0402JR-070RL
footprint R0402
pins: 1, 2

## SMD-RES-220R-1%-1/8W(0805)
designator R?, comment 301012160
MPN: RC0805JR-071KL
footprint R0805
pins: 1, 2

## SMD-RES-220R-1%-1/10W(0603)
designator R?, comment 301012051
MPN: RC0603FR-071K5L
footprint R0603
pins: 1, 2

## SMD-RES-220R-5%-1/8W(0805)
designator R?, comment 301010315
MPN: RC0805JR-07220RL
footprint R0805
pins: 1, 2

## SMD-RES-220R-5%-1/10W(0603)
designator R?, comment 301012112
MPN: RC0603JR-07220RL
footprint R0603
pins: 1, 2

## SMD-RES-240R-5%-1/10W(0603)
designator R?, comment 301012114
MPN: RC0603FR-071K5L
footprint R0603
pins: 1, 2

## SMD-RES-249R-1%-1/10W(0603)
designator R?, comment 301012053
MPN: RC0603FR-071K5L
footprint R0603
pins: 1, 2

## SMD-RES-270K-1%-1/10W(0603)
designator R?, comment 301012055
MPN: RC0603FR-071K5L
footprint R0603
pins: 1, 2

## SMD-RES-270K-5%-1/10W(0603)
designator R?, comment 301012116
MPN: RC0603FR-071K5L
footprint R0603
pins: 1, 2

## SMD-RES-270R-1%-1/10W(0603)
designator R?, comment 301012056
MPN: RC0603FR-071K5L
footprint R0603
pins: 1, 2

## SMD-RES-270R-1%-1/16W(0402)
designator R?, comment 301011992
MPN: RC0402JR-070RL
footprint R0402
pins: 1, 2

## SMD-RES-270R-5%-1/10W(0603)
designator R?, comment 301012117
MPN: RC0603FR-071K5L
footprint R0603
pins: 1, 2

## SMD-RES-300K-1%-1/10W(0603)
designator R?, comment 301011973
MPN: RC0603FR-071K5L
footprint R0603
pins: 1, 2

## SMD-RES-300R-1%-1/8W(0805)
designator R?, comment 301012165
MPN: RC0805JR-071KL
footprint R0805
pins: 1, 2

## SMD-RES-300R-1%-1/10W(0603)
designator R?, comment 301012063
MPN: RC0603FR-071K5L
footprint R0603
pins: 1, 2

## SMD-RES-300R-5%-1/10W(0603)
designator R?, comment 301012122
MPN: RC0603FR-071K5L
footprint R0603
pins: 1, 2

## SMD-RES-330R-1%-1/8W(0805)
designator R?, comment 301012167
MPN: RC0805JR-071KL
footprint R0805
pins: 1, 2

## SMD-RES-330R-1%-1/10W(0603)
designator R?, comment 301010300
MPN: RC0603FR-07330RL
footprint R0603
pins: 1, 2

## SMD-RES-330R-1%-1/16W(0402)
designator R?, comment 301011998
MPN: RC0402FR-07330RL
footprint R0402
pins: 1, 2

## SMD-RES-330R-5%-1/8W(0805)
designator R?, comment 301012196
MPN: RC0805JR-071KL
footprint R0805
pins: 1, 2

## SMD-RES-330R-5%-1/10W(0603)
designator R?, comment 301012123
MPN: RC0603FR-071K5L
footprint R0603
pins: 1, 2

## SMD-RES-360R-1%-1/10W(0603)
designator R?, comment 301012066
MPN: RC0603FR-071K5L
footprint R0603
pins: 1, 2

## SMD-RES-360R-5%-1/10W(0603)
designator R?, comment 301012125
MPN: RC0603FR-071K5L
footprint R0603
pins: 1, 2

## SMD-RES-390R-1%-1/8W(0805)
designator R?, comment 301012169
MPN: RC0805JR-071KL
footprint R0805
pins: 1, 2

## SMD-RES-390R-1%-1/10W(0603)
designator R?, comment 301012067
MPN: RC0603FR-071K5L
footprint R0603
pins: 1, 2

## SMD-RES-390R-5%-1/8W(0805)
designator R?, comment 301012198
MPN: RC0805JR-071KL
footprint R0805
pins: 1, 2

## SMD-RES-390R-5%-1/10W(0603)
designator R?, comment 301010297
MPN: RC0603JR-07390RL
footprint R0603
pins: 1, 2

## SMD-RES-470K-1%-1/10W(0603)
designator R?, comment 301012073
MPN: RC0603FR-071K5L
footprint R0603
pins: 1, 2

## SMD-RES-470K-1%-1/16W(0402)
designator R?, comment 301010069
MPN: RC0402FR-07470KL
footprint R0402
pins: 1, 2

## SMD-RES-470K-5%-1/10W(0603)
designator R?, comment 301012131
MPN: RC0603FR-071K5L
footprint R0603
pins: 1, 2

## SMD-RES-470R-1%-1/8W(0805)
designator R?, comment 301012173
MPN: RC0805JR-071KL
footprint R0805
pins: 1, 2

## SMD-RES-470R-1%-1/16W(0402)
designator R?, comment 301012000
MPN: RC0402JR-070RL
footprint R0402
pins: 1, 2

## SMD-RES-470R-5%-1/10W(0603)
designator R?, comment 301010088
MPN: RC0603JR-07470RL
footprint R0603
pins: 1, 2

## SMD-RES-470R-5%-1/16W(0402)
designator R?, comment 301012024
MPN: RC0402JR-07470RL
footprint R0402
pins: 1, 2

## SMD-RES-499R-1%-1/10W(0603)
designator R?, comment 301012075
MPN: RC0603FR-071K5L
footprint R0603
pins: 1, 2

## SMD-RES-510K-1%-1/10W(0603)
designator R?, comment 301012081
MPN: RC0603FR-071K5L
footprint R0603
pins: 1, 2

## SMD-RES-510K-1%-1/16W(0402)
designator R?, comment 301012003
MPN: RC0402JR-070RL
footprint R0402
pins: 1, 2

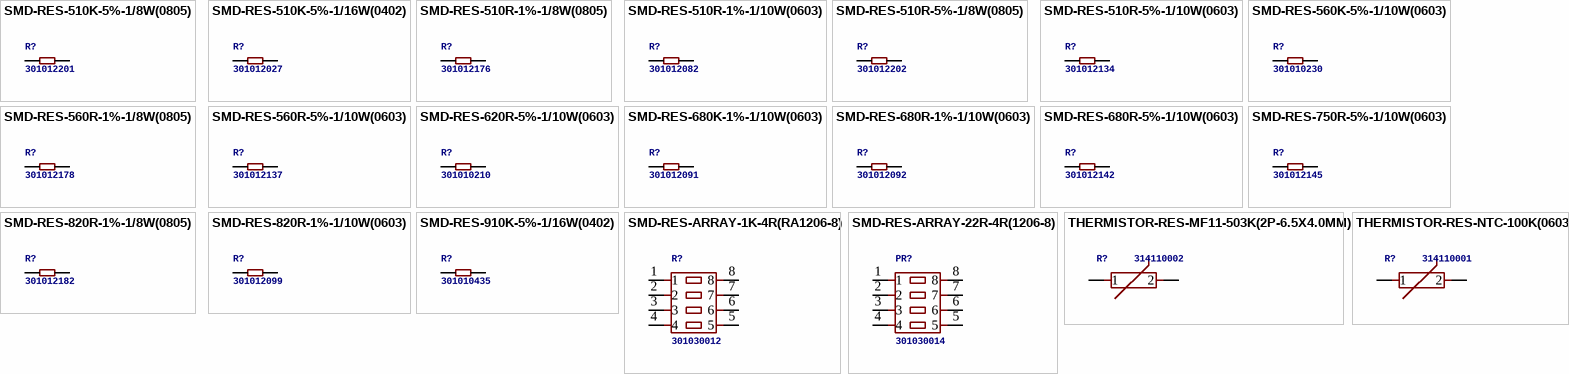
[diagram p7: symbols SMD-RES-510K-5%-1/8W(0805) to THERMISTOR-RES-NTC-100K(0603)]

## SMD-RES-510K-5%-1/8W(0805)
designator R?, comment 301012201
MPN: RC0805JR-071KL
footprint R0805
pins: 1, 2

## SMD-RES-510K-5%-1/16W(0402)
designator R?, comment 301012027
MPN: RC0402JR-070RL
footprint R0402
pins: 1, 2

## SMD-RES-510R-1%-1/8W(0805)
designator R?, comment 301012176
MPN: RC0805JR-071KL
footprint R0805
pins: 1, 2

## SMD-RES-510R-1%-1/10W(0603)
designator R?, comment 301012082
footprint R0603
pins: 1, 2

## SMD-RES-510R-5%-1/8W(0805)
designator R?, comment 301012202
MPN: RC0805JR-071KL
footprint R0805
pins: 1, 2

## SMD-RES-510R-5%-1/10W(0603)
designator R?, comment 301012134
MPN: RC0603JR-07510RL
footprint R0603
pins: 1, 2

## SMD-RES-560K-5%-1/10W(0603)
designator R?, comment 301010230
MPN: RC0603JR-07560KL
footprint R0603
pins: 1, 2

## SMD-RES-560R-1%-1/8W(0805)
designator R?, comment 301012178
MPN: RC0805JR-071KL
footprint R0805
pins: 1, 2

## SMD-RES-560R-5%-1/10W(0603)
designator R?, comment 301012137
MPN: RC0603FR-071K5L
footprint R0603
pins: 1, 2

## SMD-RES-620R-5%-1/10W(0603)
designator R?, comment 301010210
MPN: RC0603JR-07620RL
footprint R0603
pins: 1, 2

## SMD-RES-680K-1%-1/10W(0603)
designator R?, comment 301012091
MPN: RC0603FR-071K5L
footprint R0603
pins: 1, 2

## SMD-RES-680R-1%-1/10W(0603)
designator R?, comment 301012092
MPN: RC0603FR-071K5L
footprint R0603
pins: 1, 2

## SMD-RES-680R-5%-1/10W(0603)
designator R?, comment 301012142
MPN: RC0603FR-071K5L
footprint R0603
pins: 1, 2

## SMD-RES-750R-5%-1/10W(0603)
designator R?, comment 301012145
MPN: RC0603FR-071K5L
footprint R0603
pins: 1, 2

## SMD-RES-820R-1%-1/8W(0805)
designator R?, comment 301012182
MPN: RC0805JR-071KL
footprint R0805
pins: 1, 2

## SMD-RES-820R-1%-1/10W(0603)
designator R?, comment 301012099
MPN: RC0603FR-071K5L
footprint R0603
pins: 1, 2

## SMD-RES-910K-5%-1/16W(0402)
designator R?, comment 301010435
MPN: RC0402JR-07910KR
footprint R0402
pins: 1, 2

## SMD-RES-ARRAY-1K-4R(RA1206-8)
designator R?, comment 301030012
MPN: Chip-Array-Series-1%
footprint RA1206-8
pins: 1, 2, 3, 4, 5, 6, 7, 8

## SMD-RES-ARRAY-22R-4R(1206-8)
designator PR?, comment 301030014
MPN: YC324-JK-0722RL
footprint RA1206-8
pins: 1, 2, 3, 4, 5, 6, 7, 8

## THERMISTOR-RES-MF11-503K(2P-6.5X4.0MM)
designator R?, comment 314110002
MPN: MF11-503K
footprint SNR2-2.5-6.5X4.0MM
pins: 1, 2

## THERMISTOR-RES-NTC-100K(0603)
designator R?, comment 314110001
MPN: NCP18WF104F03RC
footprint R0603
pins: 1, 2